# EAGLE library part PCA9515 (library custom)
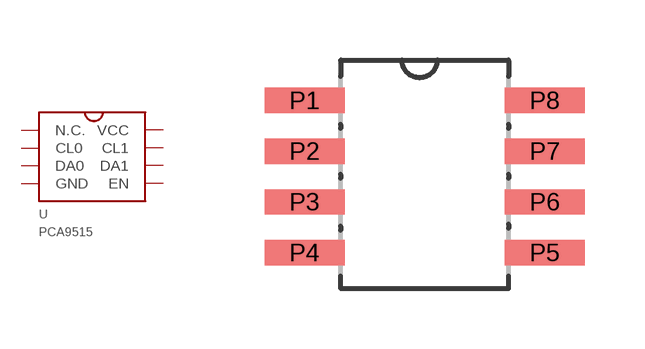
[diagram p5: symbol with the pads of SOIC8; footprint SOIC8]

Designator prefix -

## PCA9515  [SOIC8]
P1  N.C.
P2  CL0
P3  DA0
P4  GND
P5  EN
P6  DA1
P7  CL1
P8  VCC

## Footprint SOIC8 (pad centres in mm)
smd 2 x 0.635: P1 -3.04,1.91; P2 -3.04,0.64; P3 -3.04,-0.63; P4 -3.04,-1.9; P5 2.967,-1.9; P6 2.967,-0.63; P7 2.967,0.64; P8 2.967,1.91